# Altium schematic symbol library STUSB4500QTR.SchLib: 1 symbol
Pins are listed as number, name and electrical type; pins without a type are passive.

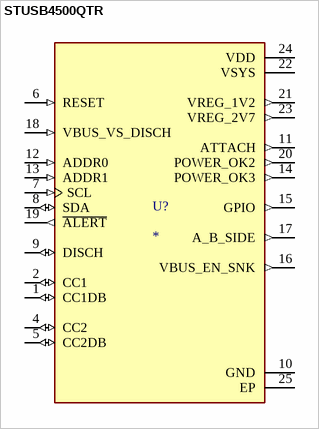
[diagram p0: symbol STUSB4500QTR]

## STUSB4500QTR
designator U?
USB Controller USB 2.0 I2C Interface 24-QFN (4x4); MF: STMicroelectronics; MP: STUSB4500QTR; SnapEDA_Link: https://www.snapeda.com/parts/STUSB4500QTR/STMicroelectronics/view-part/?ref=snap; Package: VFQFN-24 STMicroelectronics; Value: *; Check_prices: https://www.snapeda.com/parts/STUSB4500QTR/STMicroelectronics/view-part/?ref=eda
footprint QFN50P400X400X90-25N
pins: 1 CC1DB (io), 2 CC1 (io), 4 CC2 (io), 5 CC2DB (io), 6 RESET (in), 7 SCL (in), 8 SDA (io), 9 DISCH (io), 10 GND (power), 11 ATTACH (out), 12 ADDR0 (in), 13 ADDR1 (in), 14 POWER_OK3 (out), 15 GPIO (out), 16 VBUS_EN_SNK (out), 17 A_B_SIDE (out), 18 VBUS_VS_DISCH (in), 19 ~{ALERT} (out), 20 POWER_OK2 (out), 21 VREG_1V2 (out), 22 VSYS (power), 23 VREG_2V7 (out), 24 VDD (power), 25 EP (power)